# Altium footprint library RE_TRIM_BOURNS_67W.PcbLib: 1 footprints
Each footprint in its own frame and in the unit in brackets; x right, y up, seen from the top. Pads: shape width x height; smd on the part's side, far side on the other; paste and mask are expansions set on the pad; w line width, h text height; cw(c..) or ccw(c..) is an arc to the next point about the centre after c.
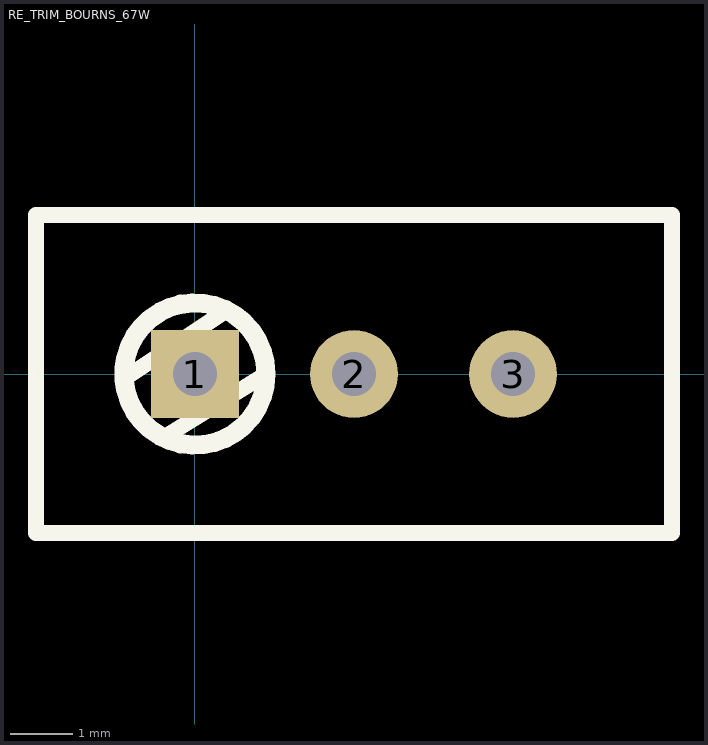
[diagram p0: the footprint, top view; thin cyan lines are the x and y axes]

## RE_TRIM_BOURNS_67W [mm]
pads (3):
  rect 1.4x1.4 hole 0.7: 1(0,0)
  round 1.4 hole 0.7: 2(2.54,0) 3(5.08,0)
Top Overlay:
  circle w0.305: c0,0 r1.136
  lines w0.254: -1.016,0 0.508,1.016 ; -0.508,-1.016 1.136,0 ; -2.54,-2.54 -2.54,2.54 7.62,2.54 7.62,-2.54 -2.54,-2.54
3D body: height 11.6, standoff 10, extent -0.992,-0.998 1,0.998
3D body: height 10.41, standoff 0, extent -2.54,-2.54 7.62,2.54